# EAGLE library part MCD_0.5/9-G1-2.5 (library Traficon)
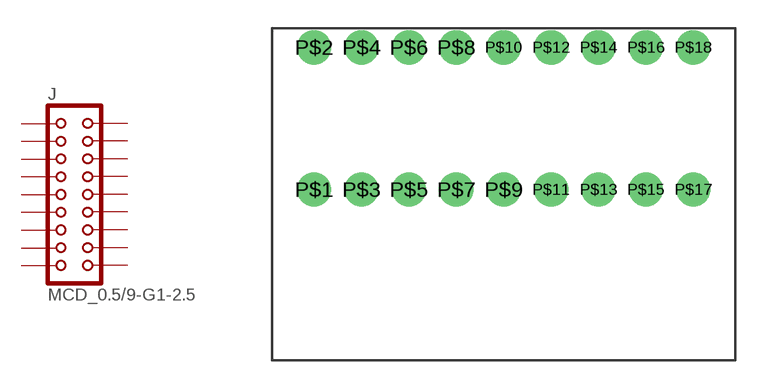
[diagram p151: symbol with the pads of MCD_0.5/6-G1-2.5; footprint MCD_0.5/6-G1-2.5]

Designator prefix J

## MCD_0.5/9-G1-2.5  [MCD_0.5/6-G1-2.5]
P$1  P$1  pas
P$2  P$2  pas
P$3  P$3  pas
P$4  P$4  pas
P$5  P$5  pas
P$6  P$6  pas
P$7  P$7  pas
P$8  P$8  pas
P$9  P$9  pas
P$10  P$10  pas
P$11  P$11  pas
P$12  P$12  pas
P$13  P$13  pas
P$14  P$14  pas
P$15  P$15  pas
P$16  P$16  pas
P$17  P$17  pas
P$18  P$18  pas

## Footprint MCD_0.5/6-G1-2.5 (pad centres in mm)
drill 1.2 round: P$1 -10.5,1.38; P$2 -10.5,8.88; P$3 -8,1.38; P$4 -8,8.88; P$5 -5.5,1.38; P$6 -5.5,8.88; P$7 -3,1.38; P$8 -3,8.88; P$9 -0.5,1.38; P$10 -0.5,8.88; P$11 2,1.38; P$12 2,8.88; P$13 4.5,1.38; P$14 4.5,8.88; P$15 7,1.38; P$16 7,8.88; P$17 9.5,1.38; P$18 9.5,8.88